# EAGLE library part MP4559 (library monolithic-power)
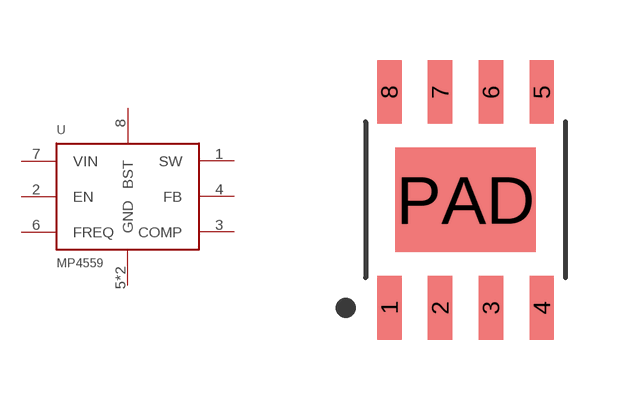
[diagram p0: symbol with the pads of SOIC8; footprint SOIC8]

Designator prefix -

## MP4559  [SOIC8]
1  SW
2  EN
3  COMP
4  FB
5  GND
6  FREQ
7  VIN
8  BST
PAD  GND

## Footprint SOIC8 (pad centres in mm)
smd 0.61 x 1.6: 1 -1.905,-2.7; 2 -0.635,-2.7; 3 0.635,-2.7; 4 1.905,-2.7; 5 1.905,2.7; 6 0.635,2.7; 7 -0.635,2.7; 8 -1.905,2.7
smd 3.51 x 2.62: PAD 0,0